# Altium footprint library Sheye-Connector.PcbLib: 137 footprints (part 9 of 9)
Each footprint in its own frame and in the unit in brackets; x right, y up, seen from the top. Pads: shape width x height; smd on the part's side, far side on the other; paste and mask are expansions set on the pad; w line width, h text height; cw(c..) or ccw(c..) is an arc to the next point about the centre after c.
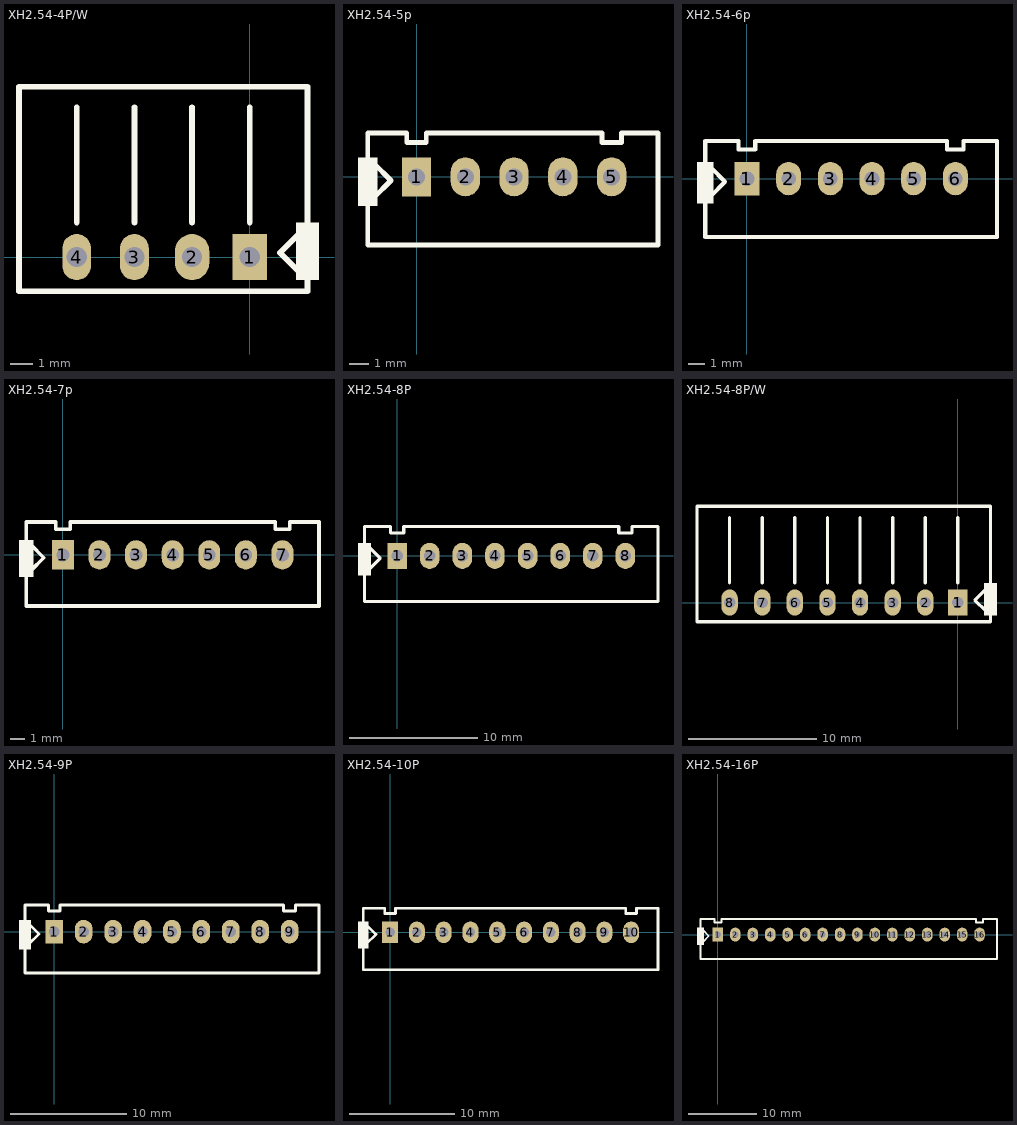
[diagram p8: the footprints below, top view; thin cyan lines are the x and y axes]

## XH2.54-4P/W [mil]
pads (4):
  rect 60x80 hole 35: 1(0,0)
  oval 60x80 hole 35: 2(-100,0)
  oval 50x80 hole 35: 3(-200,0) 4(-300,0)
Top Overlay:
  rectangle: 80,-40 120,60
  lines w10: -300,60 -300,260 ; -200,60 -200,260 ; -100,60 -100,260 ; 0,60 0,260 ; 87.44,-27.44 52.44,7.56 87.44,42.56 ; -400,-59.06 100,-59.06 100,295.28 -400,295.28 -400,-59.06
3D body: height 275.59, standoff 0, extent -400,-60 100,-20
3D body: height 39.37, standoff 0, extent -400,-60 100,290
3D body: height 275.59, standoff 236.22, extent -400,-60 100,290
3D body: height 275.59, standoff 0, extent -400,-60 -360,290
3D body: height 275.59, standoff 0, extent 60,-60 100,290

## XH2.54-5p [mil]
pads (5):
  rect 60x80 hole 35: 1(0,0)
  oval 60x80 hole 35: 2(100,0) 3(200,0) 4(300,0) 5(400,0)
Top Overlay:
  region: -80,40 -120,40 -120,-60 -80,-60
  lines w10: -87.44,-42.56 -52.44,-7.56 -87.44,27.44 ; -100,-140 -100,90 -20,90 -20,70 20,70 20,90 380,90 380,70 420,70 420,90 495,90 495,-140 -100,-140
3D body: height 78.74, standoff 0, extent -100,-140 495,90
3D body: height 255.91, standoff 0, extent 420,55 495,85
3D body: height 255.91, standoff 0, extent 20,60 380,90
3D body: height 255.91, standoff 0, extent -100,60 -20,90
3D body: height 255.91, standoff 0, extent -100,-140 495,40
3D body: height 236.22, standoff -78.74, extent -16,-16 15.37,15.43
3D body: height 236.22, standoff -78.74, extent 84,-16 115.37,15.43
3D body: height 236.22, standoff -78.74, extent 184,-16 215.37,15.43
3D body: height 236.22, standoff -78.74, extent 284,-16 315.37,15.43
3D body: height 236.22, standoff -78.74, extent 384,-16 415.37,15.43

## XH2.54-6p [mil]
pads (6):
  rect 60x80 hole 35: 1(0,0)
  oval 60x80 hole 35: 2(100,0) 3(200,0) 4(300,0) 5(400,0) 6(500,0)
Top Overlay:
  region: -80,40 -120,40 -120,-60 -80,-60
  lines w10: -87.44,-42.56 -52.44,-7.56 -87.44,27.44 ; -100,-140 600,-140 600,90 520,90 520,70 480,70 480,90 20,90 20,70 -20,70 -20,90 -100,90 -100,-140
3D body: height 236.22, standoff -78.74, extent 484,-16 515.37,15.43
3D body: height 236.22, standoff -78.74, extent 384,-16 415.37,15.43
3D body: height 236.22, standoff -78.74, extent 284,-16 315.37,15.43
3D body: height 236.22, standoff -78.74, extent 184,-16 215.37,15.43
3D body: height 236.22, standoff -78.74, extent 84,-16 115.37,15.43
3D body: height 236.22, standoff -78.74, extent -16,-16 15.37,15.43
3D body: height 78.74, standoff 0, extent -100,-140 600,90
3D body: height 255.91, standoff 0, extent 520,60 600,90
3D body: height 255.91, standoff 0, extent 20,60 480,90
3D body: height 255.91, standoff 0, extent -100,60 -20,90
3D body: height 255.91, standoff 0, extent -100,-140 600,40

## XH2.54-7p [mil]
pads (7):
  rect 60x80 hole 35: 1(0,0)
  oval 60x80 hole 35: 2(100,0) 3(200,0) 4(300,0) 5(400,0) 6(500,0) 7(600,0)
Top Overlay:
  region: -80,40 -120,40 -120,-60 -80,-60
  lines w10: -87.44,-42.56 -52.44,-7.56 -87.44,27.44 ; -100,-140 -100,90 -20,90 -20,70 20,70 20,90 580,90 580,70 620,70 620,90 700,90 700,-140 -100,-140
3D body: height 236.22, standoff -78.74, extent 584,-16 615.37,15.43
3D body: height 236.22, standoff -78.74, extent 484,-16 515.37,15.43
3D body: height 236.22, standoff -78.74, extent 384,-16 415.37,15.43
3D body: height 236.22, standoff -78.74, extent 284,-16 315.37,15.43
3D body: height 236.22, standoff -78.74, extent 184,-16 215.37,15.43
3D body: height 236.22, standoff -78.74, extent 84,-16 115.37,15.43
3D body: height 236.22, standoff -78.74, extent -16,-16 15.37,15.43
3D body: height 78.74, standoff 0, extent -100,-140 700,90
3D body: height 255.91, standoff 0, extent 620,55 700,85
3D body: height 255.91, standoff 0, extent 20,60 580,90
3D body: height 255.91, standoff 0, extent -100,60 -20,90
3D body: height 255.91, standoff 0, extent -100,-140 700,40

## XH2.54-8P [mil]
pads (8):
  rect 60x80 hole 35: 1(0,0)
  oval 60x80 hole 35: 2(100,0) 3(200,0) 4(300,0) 5(400,0) 6(500,0) 7(600,0) 8(700,0)
Top Overlay:
  region: -80,40 -120,40 -120,-60 -80,-60
  lines w10: -87.44,-42.56 -52.44,-7.56 -87.44,27.44 ; -100,-140 800,-140 800,90 720,90 720,70 680,70 680,90 20,90 20,70 -20,70 -20,90 -100,90 -100,-140
3D body: height 236.22, standoff -78.74, extent 684,-16 715.37,15.43
3D body: height 236.22, standoff -78.74, extent 584,-16 615.37,15.43
3D body: height 236.22, standoff -78.74, extent 484,-16 515.37,15.43
3D body: height 236.22, standoff -78.74, extent 384,-16 415.37,15.43
3D body: height 236.22, standoff -78.74, extent 284,-16 315.37,15.43
3D body: height 236.22, standoff -78.74, extent 184,-16 215.37,15.43
3D body: height 236.22, standoff -78.74, extent 84,-16 115.37,15.43
3D body: height 236.22, standoff -78.74, extent -16,-16 15.37,15.43
3D body: height 78.74, standoff 0, extent -100,-140 800,90
3D body: height 255.91, standoff 0, extent 720,60 800,90
3D body: height 255.91, standoff 0, extent 20,60 680,90
3D body: height 255.91, standoff 0, extent -100,60 -20,90
3D body: height 255.91, standoff 0, extent -100,-140 800,40

## XH2.54-8P/W [mil]
pads (8):
  rect 60x80 hole 35: 1(0,0)
  oval 50x80 hole 35: 2(-100,0) 3(-200,0) 4(-300,0) 5(-400,0) 6(-500,0) 7(-600,0) 8(-700,0)
Top Overlay:
  rectangle: 80,-40 120,60
  lines w10: -800,60 -800,260 ; -600,60 -600,260 ; -500,60 -500,260 ; -300,60 -300,260 ; -200,60 -200,260 ; -100,60 -100,260 ; 0,60 0,260 ; 87.44,-27.44 52.44,7.56 87.44,42.56 ; -800,-59.06 -800,295.28 100,295.28 100,-59.06 -800,-59.06 ; -700,60 -700,260 -700,60 ; -400,60 -400,260 -400,60
3D body: height 275.59, standoff 0, extent -800,-60 -760,290
3D body: height 275.59, standoff 0, extent -400,-60 100,-20
3D body: height 39.37, standoff 0, extent -800,-60 100,290
3D body: height 275.59, standoff 236.22, extent -800,-60 100,290
3D body: height 275.59, standoff 0, extent 60,-60 100,290

## XH2.54-9P [mil]
pads (9):
  rect 60x80 hole 35: 1(0,0)
  oval 60x80 hole 35: 2(100,0) 3(200,0) 4(300,0) 5(400,0) 6(500,0) 7(600,0) 8(700,0) 9(800,0)
Top Overlay:
  region: -80,40 -120,40 -120,-60 -80,-60
  lines w10: -87.44,-42.56 -52.44,-7.56 -87.44,27.44 ; -100,-140 -100,90 -20,90 -20,70 20,70 20,90 780,90 780,70 820,70 820,90 900,90 900,-140 -100,-140
3D body: height 236.22, standoff -78.74, extent 784,-16 815.37,15.43
3D body: height 236.22, standoff -78.74, extent 684,-16 715.37,15.43
3D body: height 236.22, standoff -78.74, extent 584,-16 615.37,15.43
3D body: height 236.22, standoff -78.74, extent 484,-16 515.37,15.43
3D body: height 236.22, standoff -78.74, extent 384,-16 415.37,15.43
3D body: height 236.22, standoff -78.74, extent 284,-16 315.37,15.43
3D body: height 236.22, standoff -78.74, extent 184,-16 215.37,15.43
3D body: height 236.22, standoff -78.74, extent 84,-16 115.37,15.43
3D body: height 236.22, standoff -78.74, extent -16,-16 15.37,15.43
3D body: height 255.91, standoff 0, extent -100,-140 900,40
3D body: height 255.91, standoff 0, extent -100,60 -20,90
3D body: height 255.91, standoff 0, extent 20,60 780,90
3D body: height 255.91, standoff 0, extent 820,60 900,90
3D body: height 78.74, standoff 0, extent -100,-140 900,90

## XH2.54-10P [mil]
pads (10):
  rect 60x80 hole 35: 1(0,0)
  oval 60x80 hole 35: 2(100,0) 3(200,0) 4(300,0) 5(400,0) 6(500,0) 7(600,0) 8(700,0) 9(800,0) 10(900,0)
Top Overlay:
  region: -80,40 -120,40 -120,-60 -80,-60
  lines w10: -87.44,-42.56 -52.44,-7.56 -87.44,27.44 ; -100,-140 1000,-140 1000,90 920,90 920,70 880,70 880,90 20,90 20,70 -20,70 -20,90 -100,90 -100,-140
3D body: height 236.22, standoff -78.74, extent 884,-16 915.37,15.43
3D body: height 236.22, standoff -78.74, extent 784,-16 815.37,15.43
3D body: height 236.22, standoff -78.74, extent 684,-16 715.37,15.43
3D body: height 236.22, standoff -78.74, extent 584,-16 615.37,15.43
3D body: height 236.22, standoff -78.74, extent 484,-16 515.37,15.43
3D body: height 236.22, standoff -78.74, extent 384,-16 415.37,15.43
3D body: height 236.22, standoff -78.74, extent 284,-16 315.37,15.43
3D body: height 236.22, standoff -78.74, extent 184,-16 215.37,15.43
3D body: height 236.22, standoff -78.74, extent 84,-16 115.37,15.43
3D body: height 236.22, standoff -78.74, extent -16,-16 15.37,15.43
3D body: height 78.74, standoff 0, extent -100,-140 1000,90
3D body: height 255.91, standoff 0, extent 920,60 1000,90
3D body: height 255.91, standoff 0, extent 20,60 880,90
3D body: height 255.91, standoff 0, extent -100,60 -20,90
3D body: height 255.91, standoff 0, extent -100,-140 1000,40

## XH2.54-16P [mil]
pads (16):
  rect 60x80 hole 35: 1(0,0)
  oval 60x80 hole 35: 2(100,0) 3(200,0) 4(300,0) 5(400,0) 6(500,0) 7(600,0) 8(700,0) 9(800,0) 10(900,0) 11(1000,0) 12(1100,0) 13(1200,0) 14(1300,0) 15(1400,0) 16(1500,0)
Top Overlay:
  region: -80,40 -120,40 -120,-60 -80,-60
  lines w10: -87.44,-42.56 -52.44,-7.56 -87.44,27.44 ; -100,-140 1600,-140 1600,90 1520,90 1520,70 1480,70 1480,90 20,90 20,70 -20,70 -20,90 -100,90 -100,-140
3D body: height 255.91, standoff 0, extent 1520,60 1600,90
3D body: height 236.22, standoff -78.74, extent 984,-16 1015.37,15.43
3D body: height 236.22, standoff -78.74, extent 1084,-16 1115.37,15.43
3D body: height 236.22, standoff -78.74, extent 1184,-16 1215.37,15.43
3D body: height 236.22, standoff -78.74, extent 1284,-16 1315.37,15.43
3D body: height 236.22, standoff -78.74, extent 1384,-16 1415.37,15.43
3D body: height 236.22, standoff -78.74, extent 1484,-16 1515.37,15.43
3D body: height 236.22, standoff -78.74, extent 884,-16 915.37,15.43
3D body: height 236.22, standoff -78.74, extent 784,-16 815.37,15.43
3D body: height 236.22, standoff -78.74, extent 684,-16 715.37,15.43
3D body: height 236.22, standoff -78.74, extent 584,-16 615.37,15.43
3D body: height 236.22, standoff -78.74, extent 484,-16 515.37,15.43
3D body: height 236.22, standoff -78.74, extent 384,-16 415.37,15.43
3D body: height 236.22, standoff -78.74, extent 284,-16 315.37,15.43
3D body: height 236.22, standoff -78.74, extent 184,-16 215.37,15.43
3D body: height 236.22, standoff -78.74, extent 84,-16 115.37,15.43
3D body: height 236.22, standoff -78.74, extent -16,-16 15.37,15.43
3D body: height 78.74, standoff 0, extent -100,-145 1600,85
3D body: height 255.91, standoff 0, extent 20,60 1480,90
3D body: height 255.91, standoff 0, extent -100,60 -20,90
3D body: height 255.91, standoff 0, extent -100,-140 1600,40